# EAGLE library part STM32C071RBT6 (library STM32C071RBT6)
Mainstream Arm Cortex-M0+ MCU with 128 Kbytes of Flash memory, 24 Kbytes RAM, 48 MHz CPU, 2x USART, timers, ADC, comm. I/F, USB FS, 2-3.6V Source: Datasheet <https://www.st.com/resource/en/datasheet/stm32c071c8.pdf>
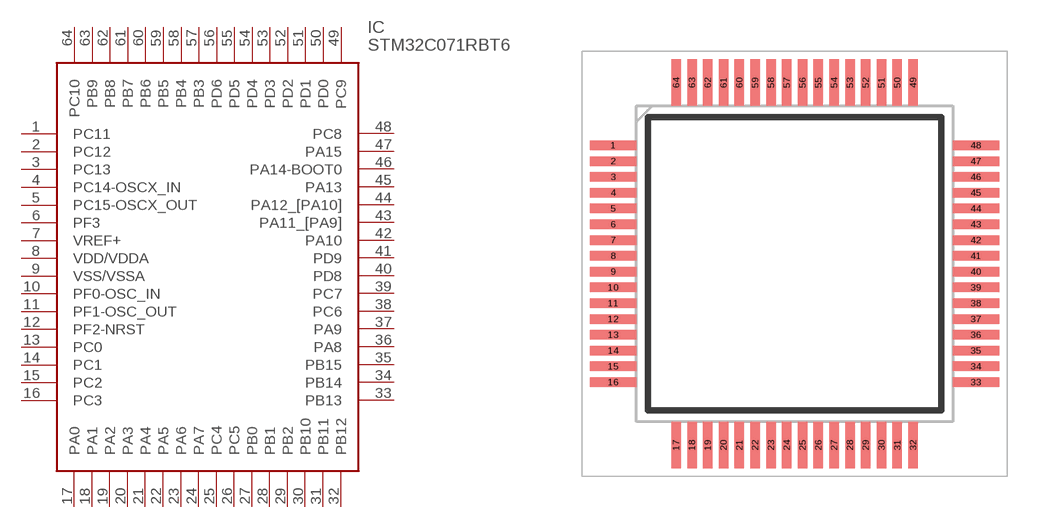
[diagram p0: symbol with the pads of QFP50P1200X1200X160-64N; footprint QFP50P1200X1200X160-64N]

Designator prefix IC

## STM32C071RBT6 (Description: Mainstream Arm Cortex-M0+ MCU with 128 Kbytes of Flash memory, 24 Kbytes RAM, 48 MHz CPU, 2x USART, timers, ADC, comm. I/F, USB FS, 2-3.6V; Height: 1.6mm; Manufacturer_Name: STMicroelectronics; Manufacturer_Part_Number: STM32C071RBT6; Mouser_Part_Number: 511-STM32C071RBT6; Mouser_Price-Stock: https://www.mouser.co.uk/ProductDetail/STMicroelectronics/STM32C071RBT6?qs=iLKYxzqNS76%2FYnLCrSv7kw%3D%3D)  [QFP50P1200X1200X160-64N]
1  PC11
2  PC12
3  PC13
4  PC14-OSCX_IN
5  PC15-OSCX_OUT
6  PF3
7  VREF+
8  VDD/VDDA
9  VSS/VSSA
10  PF0-OSC_IN
11  PF1-OSC_OUT
12  PF2-NRST
13  PC0
14  PC1
15  PC2
16  PC3
17  PA0
18  PA1
19  PA2
20  PA3
21  PA4
22  PA5
23  PA6
24  PA7
25  PC4
26  PC5
27  PB0
28  PB1
29  PB2
30  PB10
31  PB11
32  PB12
33  PB13
34  PB14
35  PB15
36  PA8
37  PA9
38  PC6
39  PC7
40  PD8
41  PD9
42  PA10
43  PA11_[PA9]
44  PA12_[PA10]
45  PA13
46  PA14-BOOT0
47  PA15
48  PC8
49  PC9
50  PD0
51  PD1
52  PD2
53  PD3
54  PD4
55  PD5
56  PD6
57  PB3
58  PB4
59  PB5
60  PB6
61  PB7
62  PB8
63  PB9
64  PC10

## Footprint QFP50P1200X1200X160-64N (pad centres in mm)
64-Pin low profile quad flat package (10x10)
smd 1.475 x 0.3: 1 -5.738,3.75; 2 -5.738,3.25; 3 -5.738,2.75; 4 -5.738,2.25; 5 -5.738,1.75; 6 -5.738,1.25; 7 -5.738,0.75; 8 -5.738,0.25; 9 -5.738,-0.25; 10 -5.738,-0.75; 11 -5.738,-1.25; 12 -5.738,-1.75; 13 -5.738,-2.25; 14 -5.738,-2.75; 15 -5.738,-3.25; 16 -5.738,-3.75; 33 5.738,-3.75; 34 5.738,-3.25; 35 5.738,-2.75; 36 5.738,-2.25; 37 5.738,-1.75; 38 5.738,-1.25; 39 5.738,-0.75; 40 5.738,-0.25; 41 5.738,0.25; 42 5.738,0.75; 43 5.738,1.25; 44 5.738,1.75; 45 5.738,2.25; 46 5.738,2.75; 47 5.738,3.25; 48 5.738,3.75
smd 0.3 x 1.475: 17 -3.75,-5.738; 18 -3.25,-5.738; 19 -2.75,-5.738; 20 -2.25,-5.738; 21 -1.75,-5.738; 22 -1.25,-5.738; 23 -0.75,-5.738; 24 -0.25,-5.738; 25 0.25,-5.738; 26 0.75,-5.738; 27 1.25,-5.738; 28 1.75,-5.738; 29 2.25,-5.738; 30 2.75,-5.738; 31 3.25,-5.738; 32 3.75,-5.738; 49 3.75,5.738; 50 3.25,5.738; 51 2.75,5.738; 52 2.25,5.738; 53 1.75,5.738; 54 1.25,5.738; 55 0.75,5.738; 56 0.25,5.738; 57 -0.25,5.738; 58 -0.75,5.738; 59 -1.25,5.738; 60 -1.75,5.738; 61 -2.25,5.738; 62 -2.75,5.738; 63 -3.25,5.738; 64 -3.75,5.738